# EAGLE library part 18500_CLIP_HOLDER (library nathans-custom-parts)
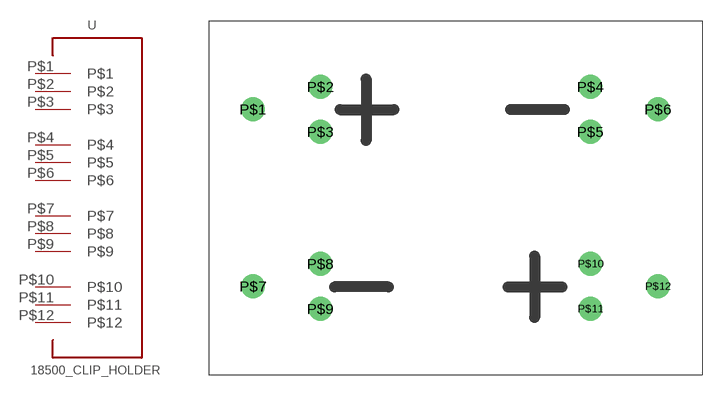
[diagram p5: symbol with the pads of 3PINBATTERY_CLIP; footprint 3PINBATTERY_CLIP]

Designator prefix -

## 18500_CLIP_HOLDER  [3PINBATTERY_CLIP]
P$1  P$1
P$2  P$2
P$3  P$3
P$4  P$4
P$5  P$5
P$6  P$6
P$7  P$7
P$8  P$8
P$9  P$9
P$10  P$10
P$11  P$11
P$12  P$12

## Footprint 3PINBATTERY_CLIP (pad centres in mm)
drill 1.8: P$1 -22.87,10; P$2 -15.25,12.54; P$3 -15.25,7.46; P$4 15.25,12.54; P$5 15.25,7.46; P$6 22.87,10; P$7 -22.87,-10; P$8 -15.25,-7.46; P$9 -15.25,-12.54; P$10 15.25,-7.46; P$11 15.25,-12.54; P$12 22.87,-10